# EAGLE library part ACS712 (library maxorig)
ACS712 - Analog AC/DC current sensor Hall effect linear current sensor for line voltage applications. Outputs analog voltage proportional to current range(-Imax to +Imax maps to 0v to VCC). Technical specifications: VCC: 4.5-5.5V Isolation voltage: 2.1kVrms 5, 20, or 30A sensing range Range centered at Vcc/2
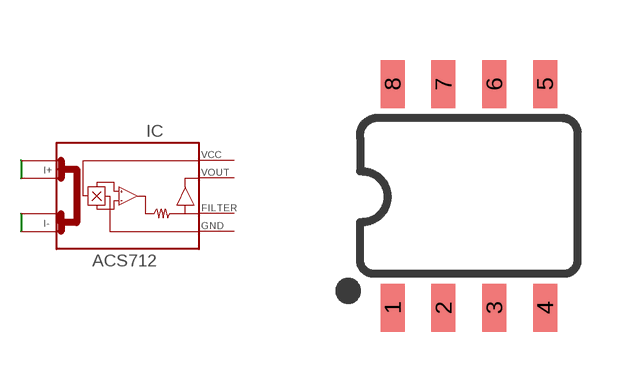
[diagram p23: symbol with the pads of SOIC-08; footprint SOIC-08]

Designator prefix IC

## ACS712  [SOIC-08]
1  I+_0
2  I+_1
3  I-_0
4  I-_1
5  GND  pwr
6  FILTER
7  VOUT  out
8  VCC  pwr

## Footprint SOIC-08 (pad centres in mm)
SOIC, 0.15 inch width
smd 0.6 x 1.2: 1 -1.905,-2.8; 2 -0.635,-2.8; 3 0.635,-2.8; 4 1.905,-2.8; 5 1.905,2.8; 6 0.635,2.8; 7 -0.635,2.8; 8 -1.905,2.8